# EAGLE library part DPQC3 (library opto)
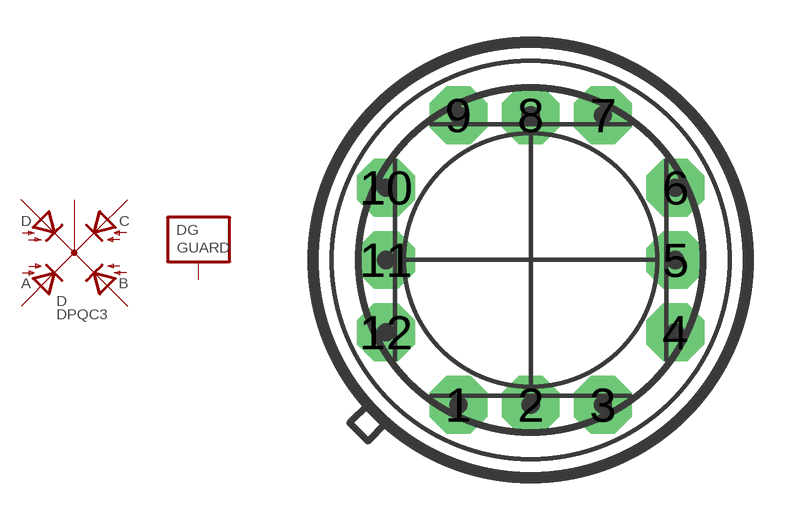
[diagram p16: symbol with the pads of DPQ05; footprint DPQ05]

Designator prefix D; gates  =DPQC1 G=VGUARD

## DPQC3  [DPQ05]
1   :C  pas
2  G:GUARD
4   :A2  pas
6   :A3  pas
10   :A4  pas
12   :A1  pas

## Footprint DPQ05 (pad centres in mm)
drill 0.813 pad 2.032 octagon: 1 0,0; 2 2.54,0; 3 5.08,0; 4 7.62,2.54; 5 7.62,5.08; 6 7.62,7.62; 7 5.08,10.16; 8 2.54,10.16; 9 0,10.16; 10 -2.54,7.62; 11 -2.54,5.08; 12 -2.54,2.54